# Altium footprint library Con Low Power.PcbLib: 1 footprints
Each footprint in its own frame and in the unit in brackets; x right, y up, seen from the top. Pads: shape width x height; smd on the part's side, far side on the other; paste and mask are expansions set on the pad; w line width, h text height; cw(c..) or ccw(c..) is an arc to the next point about the centre after c.
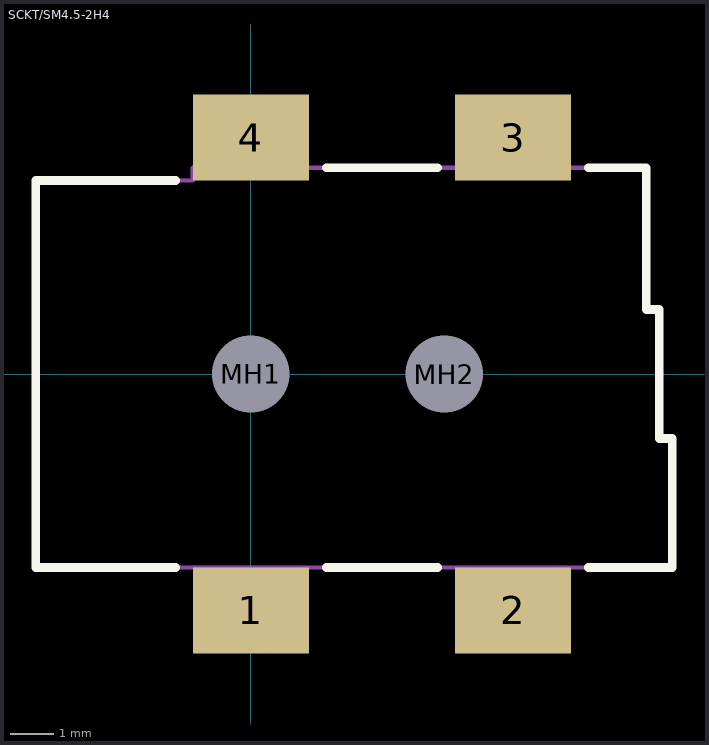
[diagram p0: the footprint, top view; thin cyan lines are the x and y axes]

## SCKT/SM4.5-2H4 [mm] "Connector; Low Power Socket, SM, Right Angle, Body 14.8 x 9 x 11 mm (LxWxH)"
height 11
pads (6):
  rect 2.7x2 smd: 1(0,-5.5) 2(6.1,-5.5) 3(6.1,5.5) 4(0,5.5)
  round 1.5 hole 1.8: MH1(0,0) MH2(4.5,0)
Top Overlay:
  lines w0.2: -1.75,-4.5 -5,-4.5 -5,4.5 -1.75,4.5 ; 1.75,-4.5 4.35,-4.5 ; 1.75,4.8 4.35,4.8 ; 7.85,-4.5 9.8,-4.5 9.8,-1.5 9.5,-1.5 9.5,1.5 9.2,1.5 9.2,4.8 7.85,4.8
Mechanical 13:
  lines w0.1: -5,-4.5 -5,4.5 -1.35,4.5 -1.35,4.8 9.2,4.8 9.2,1.5 9.5,1.5 9.5,-1.5 9.8,-1.5 9.8,-4.5 -5,-4.5
3D body: height 11, standoff 0, extent -4.999,-4.499 9.799,4.799